# EAGLE library part PBS_SMD_X12 (library NEON-BLADE-2024)
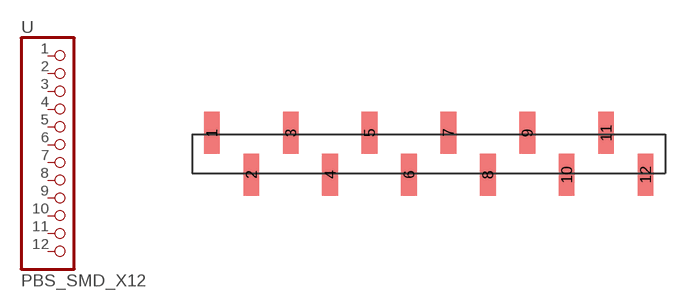
[diagram p51: symbol with the pads of PBD_SMD_X12; footprint PBD_SMD_X12]

Designator prefix -

## PBS_SMD_X12  [PBD_SMD_X12]
1  1  pas
2  2  pas
3  3  pas
4  4  pas
5  5  pas
6  6  pas
7  7  pas
8  8  pas
9  9  pas
10  10  pas
11  11  pas
12  12  pas

## Footprint PBD_SMD_X12 (pad centres in mm)
smd 1.02 x 2.7: 1 -17.78,1.35; 2 -15.24,-1.35; 3 -12.7,1.35; 4 -10.16,-1.35; 5 -7.62,1.35; 6 -5.08,-1.35; 7 -2.54,1.35; 8 0,-1.35; 9 2.54,1.35; 10 5.08,-1.35; 11 7.62,1.35; 12 10.16,-1.35